# Altium footprint library YMLib.PcbLib: 4 footprints
Each footprint in its own frame and in the unit in brackets; x right, y up, seen from the top. Pads: shape width x height; smd on the part's side, far side on the other; paste and mask are expansions set on the pad; w line width, h text height; cw(c..) or ccw(c..) is an arc to the next point about the centre after c.
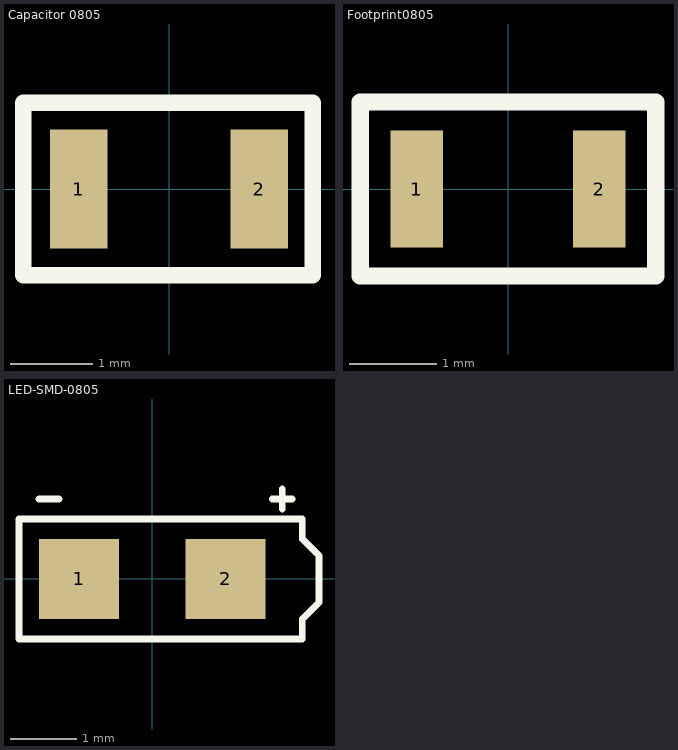
[diagram p0: the footprints below, top view; thin cyan lines are the x and y axes]

## Capacitor 0805 [mm]
pads (2):
  rect 0.7x1.45 smd: 1(-1.1,0) 2(1.1,0)
Top Overlay:
  lines w0.2: -1.775,-1.05 1.75,-1.05 1.75,1.05 -1.775,1.05 -1.775,-1.05
3D body "User Library-Ceramic_Capacitor_0805_h32mil.STEP": height 0.81, standoff 0.01, extent -1,-0.625 1,0.625

## Footprint0805 [mm]
pads (2):
  rect 0.6x1.35 smd: 1(-1.05,0) 2(1.05,0)
Top Overlay:
  lines w0.2: -1.7,-1 -1.7,1 1.7,1 1.7,-1 -1.7,-1
3D body "User Library-CR2012-0805.step": height 0.61, standoff 0.01, extent -1,-0.625 1,0.625

## LED-SMD-0805 [mm]
pads (2):
  rect 1.2x1.2 smd: 1(-1.1,0) 2(1.1,0)
Top Overlay:
  lines w0.1: -1.7,1.2 -1.4,1.2 ; 1.8,1.2 2.1,1.2 ; 1.95,1.05 1.95,1.35 1.95,1.2 ; -2,-0.9 -2,-0.6 -2,0.6 -2,0.9 2.25,0.9 2.25,0.6 2.5,0.35 2.5,-0.35 2.25,-0.6 2.25,-0.9 1.125,-0.9 -1.125,-0.9 -2,-0.9
3D body "User Library-LED SMD0805.step": height 0.85, standoff 0.01, extent -1.038,-0.428 1.025,0.478

## PCBComponent_1 [mm]